# EAGLE library part LMS3655 (library borkedlabs-powerics)
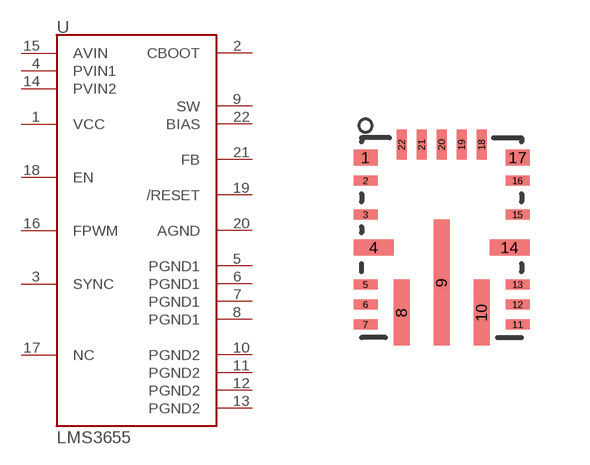
[diagram p19: symbol with the pads of VQFN-22-RNL; footprint VQFN-22-RNL]

Designator prefix U

## LMS3655AMRNL (MPN: LMS3655AMRNL; PACKAGE: VQFN22-RNL)  [VQFN-22-RNL]
1  VCC
2  CBOOT
3  SYNC
4  PVIN1
5  PGND1
6  PGND1
7  PGND1
8  PGND1
9  SW
10  PGND2
11  PGND2
12  PGND2
13  PGND2
14  PVIN2
15  AVIN
16  FPWM
17  NC
18  EN
19  /RESET
20  AGND
21  FB
22  BIAS

## Footprint VQFN-22-RNL (pad centres in mm)
TI RNL package, Like a VQFN 22 but with some pins at odd sizes
smd 0.6 x 0.4: 1 -1.9,2; 17 1.9,2
smd 0.6 x 0.25: 2 -1.9,1.425; 3 -1.9,0.575; 5 -1.9,-1.175; 6 -1.9,-1.675; 7 -1.9,-2.175; 11 1.9,-2.175; 12 1.9,-1.675; 13 1.9,-1.175; 15 1.9,0.575; 16 1.9,1.425
smd 1 x 0.4: 4 -1.7,-0.25; 14 1.7,-0.25
smd 0.4 x 1.65: 8 -1,-1.875; 10 1,-1.875
smd 0.4 x 3.15: 9 0,-1.125
smd 0.25 x 0.75: 18 1,2.325; 19 0.5,2.325; 20 0,2.325; 21 -0.5,2.325; 22 -1,2.325